# Altium schematic symbol library SCH_LIB.SchLib: 15 symbols
Pins are listed as number, name and electrical type; pins without a type are passive.

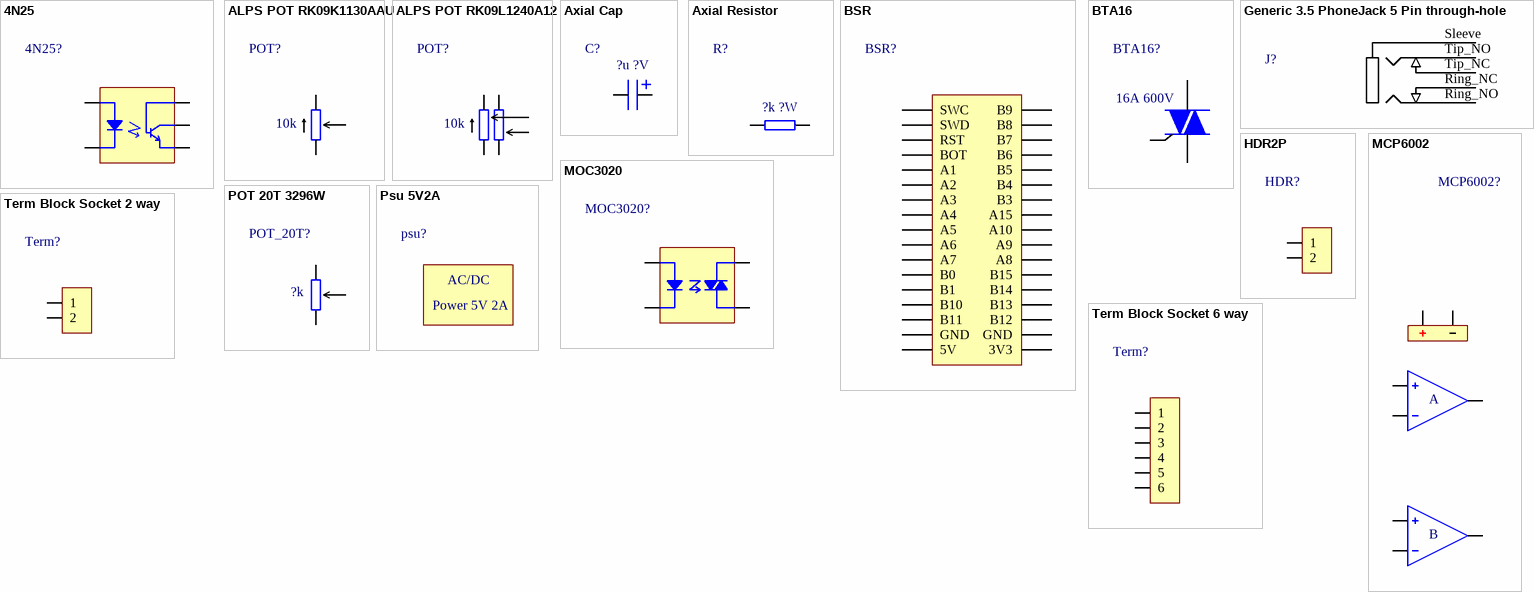
[diagram p0: symbols 4N25 to Term Block Socket 6 way]

## 4N25
designator 4N25?  (value not drawn)
4N25 Opto Coupler
footprint DIP6
pins: 1 ANODE, 2 CATHODE, 4 Emitter, 5 Collector, 6 Base

## ALPS POT RK09K1130AAU
designator POT?, comment value 10k  (hidden comment: Single POT)
ALPS POT RK09K1130AAU
footprint POT RK09K1130AAU
pins: 1, 2, 3

## ALPS POT RK09L1240A12
designator POT?, comment value 10k  (hidden comment: Dual POT)
ALPS POT RK09L1240A12
footprint POT RK09L1240A12
pins: A1, A2, A3, B1, B2, B3

## Axial Cap
designator C?, comment value ?u ?V  (hidden comment: Cap)
Axial Cap
footprint CAP Axial 6.3mm (CAP Axial 6.3mm pitch 2.5mm)
footprint CAP Axial 5mm (CAP Axial 5mm pitch 2mm)
pins: 1, 2

## Axial Resistor
designator R?, comment value ?k ?W  (hidden comment: Res)
Axial Resistor
footprint 1/4W Res
footprint 1/2W Res
pins: 1, 2

## BSR
designator BSR?  (value not drawn)
Bean Sprout Red Socket
footprint BSR (BSR Board)
pins: 1 SWC, 2 SWD, 3 RST, 4 BOT, 5 A1, 6 A2, 7 A3, 8 A4, 9 A5, 10 A6, 11 A7, 12 B0, 13 B1, 14 B10, 15 B11, 16 GND, 17 5V, 18 3V3, 19 GND, 20 B12, 21 B13, 22 B14, 23 B15, 24 A8, 25 A9, 26 A10, 27 A15, 28 B3, 29 B4, 30 B5, 31 B6, 32 B7, 33 B8, 34 B9

## BTA16
designator BTA16?  value 16A 600V  (hidden comment: BTA16)
BTA16 Insulated TRIAC 16A
footprint TO220
pins: 1 A1, 2 A2, 3 G

## Generic 3.5 PhoneJack 5 Pin through-hole
designator J?  (value not drawn)
footprint 3.5 PhoneJack 5 Pin (Generic 3.5 PhoneJack 5 Pin  through-hole)
pins: Ring_NC, Ring_NO, Sleeve, Tip_NC, Tip_NO

## HDR2P
designator HDR?, comment header  (value not drawn)
Header 2 Pin 180d
footprint HDR1X2_2.54_180
pins: 1, 2

## MCP6002
designator MCP6002?  (value not drawn)
MCP6002 RRIO Op Amp
footprint DIP8
pins: 1 VOUTA, 2 VINA-, 3 VINA+, 4 VSS, 5 VINB+, 6 VINB-, 7 VOUTB, 8 VDD
text: A; B

## MOC3020
designator MOC3020?  (value not drawn)
MOC3020 Random Phase Triac Driver
footprint DIP6
pins: 1 ANODE, 2 CATHODE, 4 Term2, 6 Term1

## POT 20T 3296W
designator POT_20T?, comment value ?k  (hidden comment: POT 20T)
POT 20T 3296W
footprint POT 20T
pins: 1, 2, 3

## Psu 5V2A
designator psu?, comment psu  (value not drawn)
PSU AC DC 5V 2A Mechanical
footprint Power 5V2A Mechanical
text: AC/DC; Power 5V 2A

## Term Block Socket 2 way
designator Term?, comment Terminal Block Socket 2 way  (value not drawn)
Terminal Block Socket 2 way 5.08
footprint TermBlock Socket 2way 5.08 (TermBlock Socket 90d 2wall 2way 5.08)
pins: 1, 2

## Term Block Socket 6 way
designator Term?, comment Terminal Block Socket 6 way  (value not drawn)
Terminal Block Socket 6 way 5.08
footprint TermBlock Socket 6way 5.08 (TermBlock Socket 90d 2wall 6way 5.08)
pins: 1, 2, 3, 4, 5, 6